# Altium footprint library RGB_SMD_5x5.PcbLib: 1 footprints
Each footprint in its own frame and in the unit in brackets; x right, y up, seen from the top. Pads: shape width x height; smd on the part's side, far side on the other; paste and mask are expansions set on the pad; w line width, h text height; cw(c..) or ccw(c..) is an arc to the next point about the centre after c.
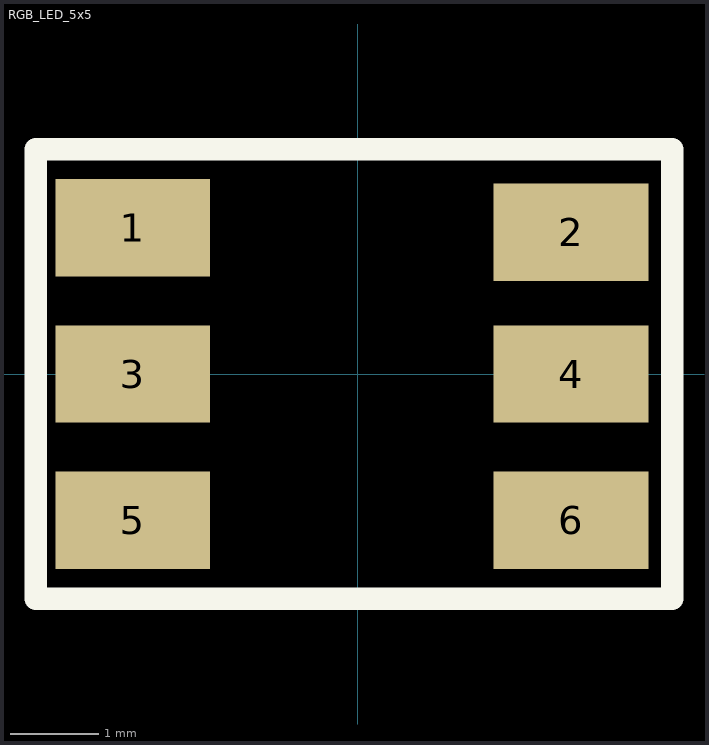
[diagram p0: the footprint, top view; thin cyan lines are the x and y axes]

## RGB_LED_5x5 [mm]
pads (6):
  rect 1.75x1.1 / inner rect 1.524x1.524 / far side rect 0x0 all layers, no hole: 1(-2.54,1.651) 2(2.413,1.6) 3(-2.54,0) 4(2.413,0) 5(-2.54,-1.651) 6(2.413,-1.651)
Top Overlay:
  lines w0.254: -3.635,-2.54 3.556,-2.54 3.556,2.54 -3.635,2.54 -3.635,-2.54
3D body "5050 RGB LED SMD.STEP": height 2, standoff 0.2, extent -2.7,-2.5 2.7,2.5